# EAGLE library part A-4880* (library matrix-led)
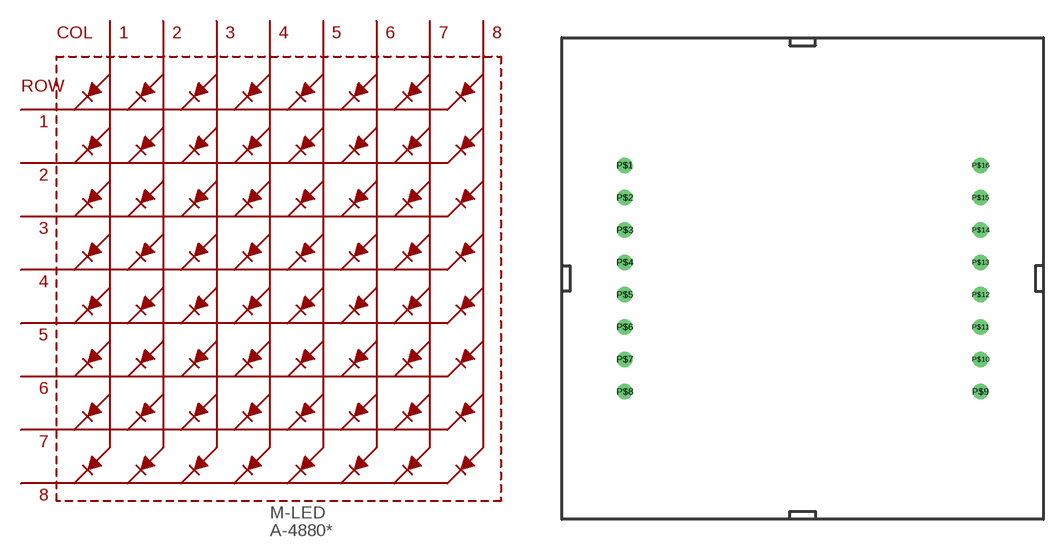
[diagram p2: symbol with the pads of 4880; footprint 4880]

Designator prefix M-LED

## A-4880  [4880]
P$1  R$5
P$2  R$7
P$3  C$2  in
P$4  C$3  in
P$5  R$8
P$6  C$5  in
P$7  R$6
P$8  R$3
P$9  R$1
P$10  C$4  in
P$11  C$6  in
P$12  R$4
P$13  C$1  in
P$14  R$2
P$15  C$7  in
P$16  C$8  in

## Footprint 4880 (pad centres in mm)
drill 0.711 round: P$1 -13.97,8.89; P$2 -13.97,6.35; P$3 -13.97,3.81; P$4 -13.97,1.27; P$5 -13.97,-1.27; P$6 -13.97,-3.81; P$7 -13.97,-6.35; P$8 -13.97,-8.89; P$9 13.97,-8.89; P$10 13.97,-6.35; P$11 13.97,-3.81; P$12 13.97,-1.27; P$13 13.97,1.27; P$14 13.97,3.81; P$15 13.97,6.35; P$16 13.97,8.89